# Altium schematic symbol library ROM.SchLib: 1 symbol
Pins are listed as number, name and electrical type; pins without a type are passive.

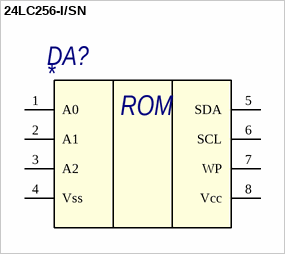
[diagram p0: symbol 24LC256-I/SN]

## 24LC256-I/SN
designator DA?
Последовательная энергонезависимая память 32x8kbit
pins: 1 A0, 2 A1, 3 A2, 4 Vss, 5 SDA, 6 SCL, 7 WP, 8 Vcc
text: ROM